# EAGLE library part MT46V16M16 (library untitled)
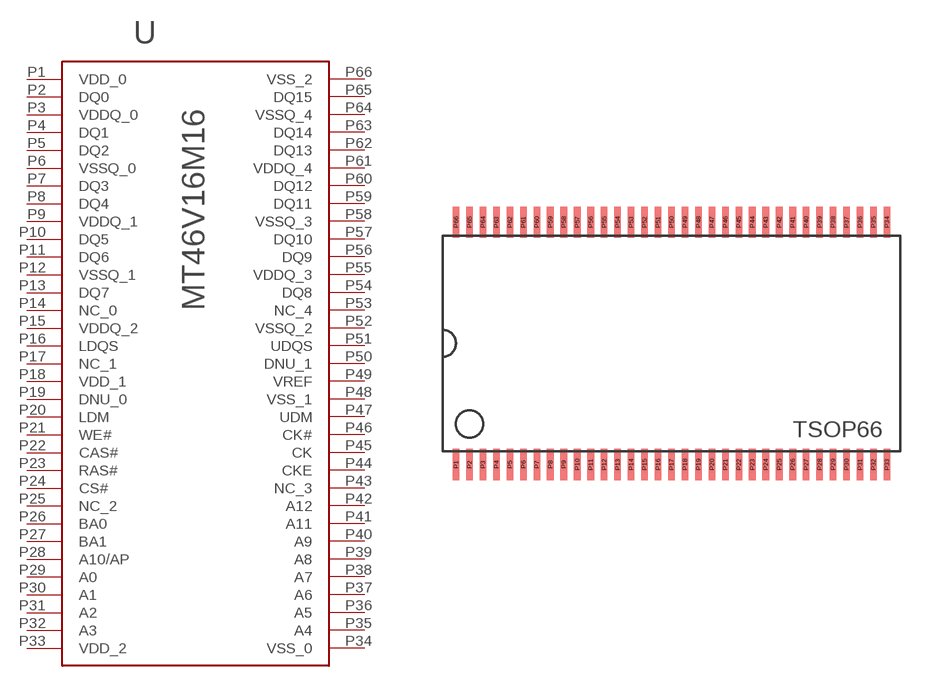
[diagram p0: symbol with the pads of TSOP66; footprint TSOP66]

Designator prefix -

## MT46V16M16  [TSOP66]
P1  VDD_0  pwr
P2  DQ0
P3  VDDQ_0  pwr
P4  DQ1
P5  DQ2
P6  VSSQ_0  pwr
P7  DQ3
P8  DQ4
P9  VDDQ_1  pwr
P10  DQ5
P11  DQ6
P12  VSSQ_1  pwr
P13  DQ7
P14  NC_0  nc
P15  VDDQ_2  pwr
P16  LDQS
P17  NC_1  nc
P18  VDD_1  pwr
P19  DNU_0  nc
P20  LDM  in
P21  WE#  in
P22  CAS#  in
P23  RAS#  in
P24  CS#  in
P25  NC_2  nc
P26  BA0  in
P27  BA1  in
P28  A10/AP  in
P29  A0  in
P30  A1  in
P31  A2  in
P32  A3  in
P33  VDD_2  pwr
P34  VSS_0  pwr
P35  A4  in
P36  A5  in
P37  A6  in
P38  A7  in
P39  A8  in
P40  A9  in
P41  A11  in
P42  A12  in
P43  NC_3  nc
P44  CKE  in
P45  CK  in
P46  CK#  in
P47  UDM  in
P48  VSS_1  pwr
P49  VREF  pwr
P50  DNU_1  nc
P51  UDQS
P52  VSSQ_2  pwr
P53  NC_4  nc
P54  DQ8
P55  VDDQ_3  pwr
P56  DQ9
P57  DQ10
P58  VSSQ_3  pwr
P59  DQ11
P60  DQ12
P61  VDDQ_4  pwr
P62  DQ13
P63  DQ14
P64  VSSQ_4  pwr
P65  DQ15
P66  VSS_2  pwr

## Footprint TSOP66 (pad centres in mm)
smd 0.32 x 1.5: P1 -10.4,-5.85; P2 -9.75,-5.85; P3 -9.1,-5.85; P4 -8.45,-5.85; P5 -7.8,-5.85; P6 -7.15,-5.85; P7 -6.5,-5.85; P8 -5.85,-5.85; P9 -5.2,-5.85; P10 -4.55,-5.85; P11 -3.9,-5.85; P12 -3.25,-5.85; P13 -2.6,-5.85; P14 -1.95,-5.85; P15 -1.3,-5.85; P16 -0.65,-5.85; P17 0,-5.85; P18 0.65,-5.85; P19 1.3,-5.85; P20 1.95,-5.85; P21 2.6,-5.85; P22 3.25,-5.85; P23 3.9,-5.85; P24 4.55,-5.85; P25 5.2,-5.85; P26 5.85,-5.85; P27 6.5,-5.85; P28 7.15,-5.85; P29 7.8,-5.85; P30 8.45,-5.85; P31 9.1,-5.85; P32 9.75,-5.85; P33 10.4,-5.85; P34 10.4,5.85; P35 9.75,5.85; P36 9.1,5.85; P37 8.45,5.85; P38 7.8,5.85; P39 7.15,5.85; P40 6.5,5.85; P41 5.85,5.85; P42 5.2,5.85; P43 4.55,5.85; P44 3.9,5.85; P45 3.25,5.85; P46 2.6,5.85; P47 1.95,5.85; P48 1.3,5.85; P49 0.65,5.85; P50 0,5.85; P51 -0.65,5.85; P52 -1.3,5.85; P53 -1.95,5.85; P54 -2.6,5.85; P55 -3.25,5.85; P56 -3.9,5.85; P57 -4.55,5.85; P58 -5.2,5.85; P59 -5.85,5.85; P60 -6.5,5.85; P61 -7.15,5.85; P62 -7.8,5.85; P63 -8.45,5.85; P64 -9.1,5.85; P65 -9.75,5.85; P66 -10.4,5.85